# Altium schematic symbol library Heat_Sink_183013.SchLib: 1 symbol
Pins are listed as number, name and electrical type; pins without a type are passive.

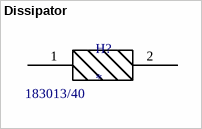
[diagram p0: symbol Dissipator]

## Dissipator
designator H?  Dissipador: 183013/40
DISSIPADOR 183013/40 COM FURO PARA TO220 (K6439); Notes: Com furo; Parameter 1: *; ComponentLink1Description: Compra; ComponentLink1URL: https://www.soldafria.com.br/dissipador-183013-40-com-furo-para-to220-k6439
footprint PCBComponent_1
pins: 1, 2